# EAGLE library part 25AA02E48 (library _RoweTel)
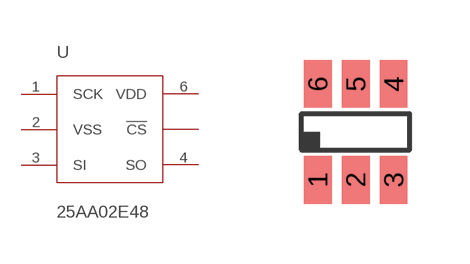
[diagram p2: symbol with the pads of SOT23-6; footprint SOT23-6]

Designator prefix U

## 25AA02E48  [SOT23-6]
1  SCK
2  VSS
3  SI
4  SO
5  !CS
6  VDD

## Footprint SOT23-6 (pad centres in mm)
smd 0.7 x 1.2: 1 -0.95,-1.2; 2 0,-1.2; 3 0.95,-1.2; 4 0.95,1.2; 5 0,1.2; 6 -0.95,1.2